# Altium integrated library RF Micro RF and IF Modulator.IntLib: 8 symbols
Pins are listed as number, name and electrical type; pins without a type are passive.

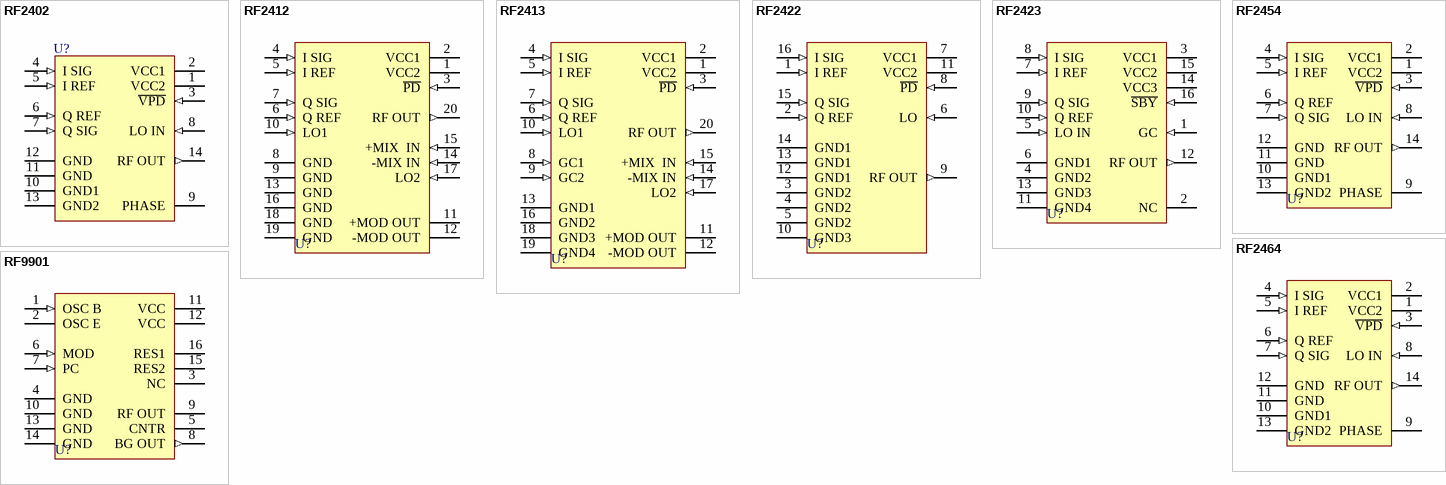
[diagram p0: symbols RF2402 to RF9901]

## RF2402
designator U?
UHF Quadrature Modulator; Published: 8-Jun-2000; LatestRevisionDate: 13-Apr-2006; LatestRevisionNote: IPC-7351 Footprint Added.; DatasheetVersion: Apr-1997; PackageVersion: 1997; PackageReference: SOP-14; Publisher: Altium Limited; PackageDescription: 14-Pin Small Outline Integrated Circuit 1.27 mm Pitch; Code_IPC: SOIC127P600-14; ComponentLink1Description: Manufacturer Link; ComponentLink1URL: http://www.rfmd.com/
footprint SOP-14_N (SOIC, 14-Leads, Body 8.7x3.9mm, Pitch 1.27mm, IPC Medium Density)
footprint SOP-14_L (SOIC, 14-Leads, Body 8.7x3.9mm, Pitch 1.27mm, IPC High Density)
footprint SOP-14_M (SOIC, 14-Leads, Body 8.7x3.9mm, Pitch 1.27mm, IPC Low Density)
pins: 1 VCC2 (power), 2 VCC1 (power), 3 ~{VPD} (in), 4 I SIG (in), 5 I REF (in), 6 Q REF (in), 7 Q SIG (in), 8 LO IN (in), 9 PHASE, 10 GND1 (power), 11 GND (power), 12 GND (power), 13 GND2 (power), 14 RF OUT (out)

## RF2412
designator U?
Broadband Dual-Conversion Quadrature Modulator; Published: 8-Jun-2000; LatestRevisionDate: 13-Apr-2006; LatestRevisionNote: IPC-7351 Footprint Added.; DatasheetVersion: Apr-1997; PackageVersion: 1997; PackageReference: SOP-20; Publisher: Altium Limited; PackageDescription: 20-Pin Small Outline Integrated Circuit 1.27 mm Pitch; ComponentLink1Description: Manufacturer Link; ComponentLink1URL: http://www.rfmd.com/
footprint SOP-20_N (SOIC, 20-Leads, Body 12.7x7.5mm, Pitch 1.27mm, IPC Medium Density)
footprint SOP-20_L (SOIC, 20-Leads, Body 12.7x7.5mm, Pitch 1.27mm, IPC High Density)
footprint SOP-20_M (SOIC, 20-Leads, Body 12.7x7.5mm, Pitch 1.27mm, IPC Low Density)
pins: 1 VCC2 (power), 2 VCC1 (power), 3 ~{PD} (in), 4 I SIG (in), 5 I REF (in), 6 Q REF (in), 7 Q SIG (in), 8 GND (power), 9 GND (power), 10 LO1 (in), 11 +MOD OUT (oc), 12 -MOD OUT (oc), 13 GND (power), 14 -MIX IN (in), 15 +MIX  IN (in), 16 GND (power), 17 LO2 (in), 18 GND (power), 19 GND (power), 20 RF OUT (out)

## RF2413
designator U?
Gain Controlled Dual-Conversion Quadrature Modulator; Published: 8-Jun-2000; LatestRevisionDate: 13-Apr-2006; LatestRevisionNote: IPC-7351 Footprint Added.; DatasheetVersion: Apr-1997; PackageVersion: 1997; PackageReference: SOP-20; Publisher: Altium Limited; PackageDescription: 20-Pin Small Outline Integrated Circuit 1.27 mm Pitch; ComponentLink1Description: Manufacturer Link; ComponentLink1URL: http://www.rfmd.com/
footprint SOP-20_N (SOIC, 20-Leads, Body 12.7x7.5mm, Pitch 1.27mm, IPC Medium Density)
footprint SOP-20_L (SOIC, 20-Leads, Body 12.7x7.5mm, Pitch 1.27mm, IPC High Density)
footprint SOP-20_M (SOIC, 20-Leads, Body 12.7x7.5mm, Pitch 1.27mm, IPC Low Density)
pins: 1 VCC2 (power), 2 VCC1 (power), 3 ~{PD} (in), 4 I SIG (in), 5 I REF (in), 6 Q REF (in), 7 Q SIG (in), 8 GC1 (in), 9 GC2 (in), 10 LO1 (in), 11 +MOD OUT (oc), 12 -MOD OUT (oc), 13 GND1 (power), 14 -MIX IN (in), 15 +MIX  IN (in), 16 GND2 (power), 17 LO2 (in), 18 GND3 (power), 19 GND4 (power), 20 RF OUT (out)

## RF2422
designator U?
2.5 GHZ Direct Quadrature Modulator; Published: 8-Jun-2000; LatestRevisionDate: 13-Apr-2006; LatestRevisionNote: IPC-7351 Footprint Added.; DatasheetVersion: Rev. A5; PackageVersion: 1997; PackageReference: SOP-16; Publisher: Altium Limited; PackageDescription: 16-Pin Small Outline Integrated Circuit 1.27 mm Pitch; Code_IPC: SOIC127P600-16; ComponentLink1Description: Manufacturer Link; ComponentLink1URL: http://www.rfmd.com/; ComponentLink2Description: Datasheet; ComponentLink2URL: http://www.rfmd.com/DataBooks/db97/2422.pdf
footprint SOP-16_N (SOIC, 16-Leads, Body 9.9x3.9mm, Pitch 1.27mm, IPC Medium Density)
footprint SOP-16_L (SOIC, 16-Leads, Body 9.9x3.9mm, Pitch 1.27mm, IPC High Density)
footprint SOP-16_M (SOIC, 16-Leads, Body 9.9x3.9mm, Pitch 1.27mm, IPC Low Density)
pins: 1 I REF (in), 2 Q REF (in), 3 GND2 (power), 4 GND2 (power), 5 GND2 (power), 6 LO (in), 7 VCC1 (power), 8 ~{PD} (in), 9 RF OUT (out), 10 GND3 (power), 11 VCC2 (power), 12 GND1 (power), 13 GND1 (power), 14 GND1 (power), 15 Q SIG (in), 16 I SIG (in)

## RF2423
designator U?
100 mW Spread-Spectrum Transmitter IC; Note: Pin(s) 2 "No Connection".; Published: 8-Jun-2000; LatestRevisionDate: 13-Apr-2006; LatestRevisionNote: IPC-7351 Footprint Added.; DatasheetVersion: Apr-1997; PackageVersion: 1997; PackageReference: SOP-16; Publisher: Altium Limited; PackageDescription: 16-Pin Small Outline Integrated Circuit 1.27 mm Pitch; Code_IPC: SOIC127P600-16; ComponentLink1Description: Manufacturer Link; ComponentLink1URL: http://www.rfmd.com/
footprint SOP-16_N (SOIC, 16-Leads, Body 9.9x3.9mm, Pitch 1.27mm, IPC Medium Density)
footprint SOP-16_L (SOIC, 16-Leads, Body 9.9x3.9mm, Pitch 1.27mm, IPC High Density)
footprint SOP-16_M (SOIC, 16-Leads, Body 9.9x3.9mm, Pitch 1.27mm, IPC Low Density)
pins: 1 GC (in), 2 NC, 3 VCC1 (power), 4 GND2 (power), 5 LO IN (in), 6 GND1 (power), 7 I REF (in), 8 I SIG (in), 9 Q SIG (in), 10 Q REF (in), 11 GND4 (power), 12 RF OUT (out), 13 GND3 (power), 14 VCC3 (power), 15 VCC2 (power), 16 ~{SBY} (in)

## RF2454
designator U?
VHF Quadrature Modulator; Note: Pin(s) 1,9,12,13,24 "No Connection".; Published: 8-Jun-2000; LatestRevisionDate: 13-Apr-2006; LatestRevisionNote: IPC-7351 Footprint Added.; DatasheetVersion: Apr-1997; PackageVersion: 1997; PackageReference: SOP-14; Publisher: Altium Limited; PackageDescription: 14-Pin Small Outline Integrated Circuit 1.27 mm Pitch; Code_IPC: SOIC127P600-14; ComponentLink1Description: Manufacturer Link; ComponentLink1URL: http://www.rfmd.com/
footprint SOP-14_N (SOIC, 14-Leads, Body 8.7x3.9mm, Pitch 1.27mm, IPC Medium Density)
footprint SOP-14_L (SOIC, 14-Leads, Body 8.7x3.9mm, Pitch 1.27mm, IPC High Density)
footprint SOP-14_M (SOIC, 14-Leads, Body 8.7x3.9mm, Pitch 1.27mm, IPC Low Density)
pins: 1 VCC2 (power), 2 VCC1 (power), 3 ~{VPD} (in), 4 I SIG (in), 5 I REF (in), 6 Q REF (in), 7 Q SIG (in), 8 LO IN (in), 9 PHASE, 10 GND1 (power), 11 GND (power), 12 GND (power), 13 GND2 (power), 14 RF OUT (out)

## RF2464
designator U?
VHF Quadrature Modulator; Published: 8-Jun-2000; LatestRevisionDate: 13-Apr-2006; LatestRevisionNote: IPC-7351 Footprint Added.; DatasheetVersion: Apr-1997; PackageVersion: 1997; PackageReference: SOP-14; Publisher: Altium Limited; PackageDescription: 14-Pin Small Outline Integrated Circuit 1.27 mm Pitch; Code_IPC: SOIC127P600-14; ComponentLink1Description: Manufacturer Link; ComponentLink1URL: http://www.rfmd.com/
footprint SOP-14_N (SOIC, 14-Leads, Body 8.7x3.9mm, Pitch 1.27mm, IPC Medium Density)
footprint SOP-14_L (SOIC, 14-Leads, Body 8.7x3.9mm, Pitch 1.27mm, IPC High Density)
footprint SOP-14_M (SOIC, 14-Leads, Body 8.7x3.9mm, Pitch 1.27mm, IPC Low Density)
pins: 1 VCC2 (power), 2 VCC1 (power), 3 ~{VPD} (in), 4 I SIG (in), 5 I REF (in), 6 Q REF (in), 7 Q SIG (in), 8 LO IN (in), 9 PHASE, 10 GND1 (power), 11 GND (power), 12 GND (power), 13 GND2 (power), 14 RF OUT (out)

## RF9901
designator U?
FSK Transmitter; Note: Pin(s) 3 "No Connection".; Published: 8-Jun-2000; LatestRevisionDate: 13-Apr-2006; LatestRevisionNote: IPC-7351 Footprint Added.; DatasheetVersion: Apr-1997; PackageVersion: 1997; PackageReference: SOP-16; Publisher: Altium Limited; PackageDescription: 16-Pin Small Outline Integrated Circuit 1.27 mm Pitch; Code_IPC: SOIC127P600-16; ComponentLink1Description: Manufacturer Link; ComponentLink1URL: http://www.rfmd.com/
footprint SOP-16_N (SOIC, 16-Leads, Body 9.9x3.9mm, Pitch 1.27mm, IPC Medium Density)
footprint SOP-16_L (SOIC, 16-Leads, Body 9.9x3.9mm, Pitch 1.27mm, IPC High Density)
footprint SOP-16_M (SOIC, 16-Leads, Body 9.9x3.9mm, Pitch 1.27mm, IPC Low Density)
pins: 1 OSC B (in), 2 OSC E (oe), 3 NC, 4 GND (power), 5 CNTR, 6 MOD (in), 7 PC (in), 8 BG OUT (out), 9 RF OUT (oc), 10 GND (power), 11 VCC (power), 12 VCC (power), 13 GND (power), 14 GND (power), 15 RES2, 16 RES1